# Altium schematic symbol library Inductor Adj.Schlib: 1 symbol
Pins are listed as number, name and electrical type; pins without a type are passive.

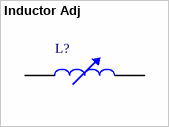
[diagram p0: symbol Inductor Adj]

## Inductor Adj
designator L?
Adjustable Inductor
pins: 1, 2